# EAGLE library part LP2989 (library MSSRP-Lib)
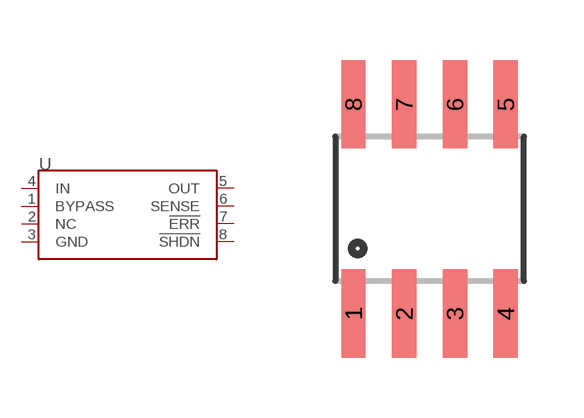
[diagram p5: symbol with the pads of SOIC8; footprint SOIC8]

Designator prefix -

## LP2989AIM  [SOIC8]
1  BYPASS  pas
2  NC
3  GND  pwr
4  IN  pwr
5  OUT  pwr
6  SENSE  pas
7  !ERR  out
8  !SHDN  in

## Footprint SOIC8 (pad centres in mm)
smd 0.61 x 2.21: 1 -1.905,-2.616; 2 -0.635,-2.616; 3 0.635,-2.616; 4 1.905,-2.616; 5 1.905,2.616; 6 0.635,2.616; 7 -0.635,2.616; 8 -1.905,2.616